# EAGLE library part RPI-PICO (library Raspberry Pi Pico Library v12)
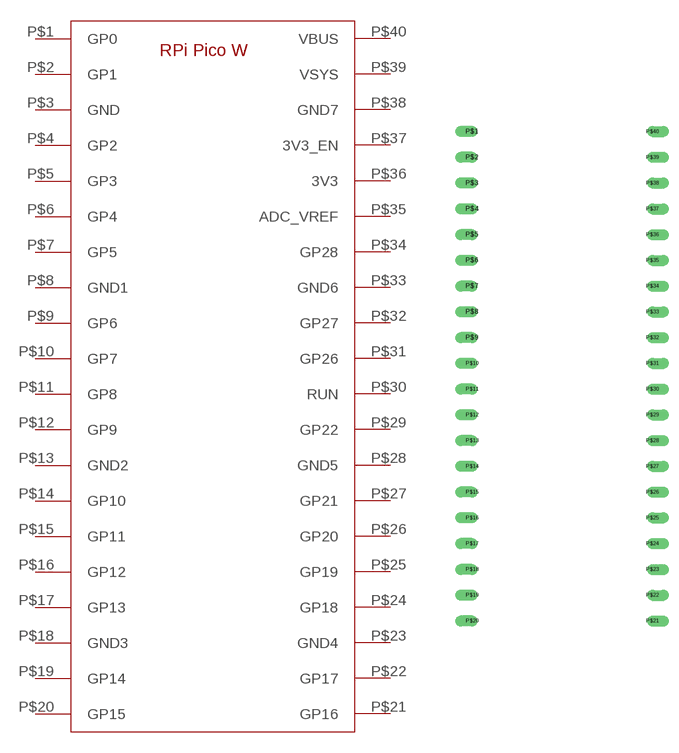
[diagram p0: symbol with the pads of RPI-PICO; footprint RPI-PICO]

Designator prefix -

## RPI-PICO  [RPI-PICO]
P$1  GP0
P$2  GP1
P$3  GND
P$4  GP2
P$5  GP3
P$6  GP4
P$7  GP5
P$8  GND1
P$9  GP6
P$10  GP7
P$11  GP8
P$12  GP9
P$13  GND2
P$14  GP10
P$15  GP11
P$16  GP12
P$17  GP13
P$18  GND3
P$19  GP14
P$20  GP15
P$21  GP16
P$22  GP17
P$23  GND4
P$24  GP18
P$25  GP19
P$26  GP20
P$27  GP21
P$28  GND5
P$29  GP22
P$30  RUN
P$31  GP26
P$32  GP27
P$33  GND6
P$34  GP28
P$35  ADC_VREF
P$36  3V3
P$37  3V3_EN
P$38  GND7
P$39  VSYS
P$40  VBUS

## Footprint RPI-PICO (pad centres in mm)
drill 0.6 offset: P$1 -8.89,7.62; P$2 -8.89,5.08; P$3 -8.89,2.54; P$4 -8.89,0; P$5 -8.89,-2.54; P$6 -8.89,-5.08; P$7 -8.89,-7.62; P$8 -8.89,-10.16; P$9 -8.89,-12.7; P$10 -8.89,-15.24; P$11 -8.89,-17.78; P$12 -8.89,-20.32; P$13 -8.89,-22.86; P$14 -8.89,-25.4; P$15 -8.89,-27.94; P$16 -8.89,-30.48; P$17 -8.89,-33.02; P$18 -8.89,-35.56; P$19 -8.89,-38.1; P$20 -8.89,-40.64; P$21 8.89,-40.64; P$22 8.89,-38.1; P$23 8.89,-35.56; P$24 8.89,-33.02; P$25 8.89,-30.48; P$26 8.89,-27.94; P$27 8.89,-25.4; P$28 8.89,-22.86; P$29 8.89,-20.32; P$30 8.89,-17.78; P$31 8.89,-15.24; P$32 8.89,-12.7; P$33 8.89,-10.16; P$34 8.89,-7.62; P$35 8.89,-5.08; P$36 8.89,-2.54; P$37 8.89,0; P$38 8.89,2.54; P$39 8.89,5.08; P$40 8.89,7.62